# Altium integrated library LIB Extraction.IntLib: 9 symbols
Pins are listed as number, name and electrical type; pins without a type are passive.

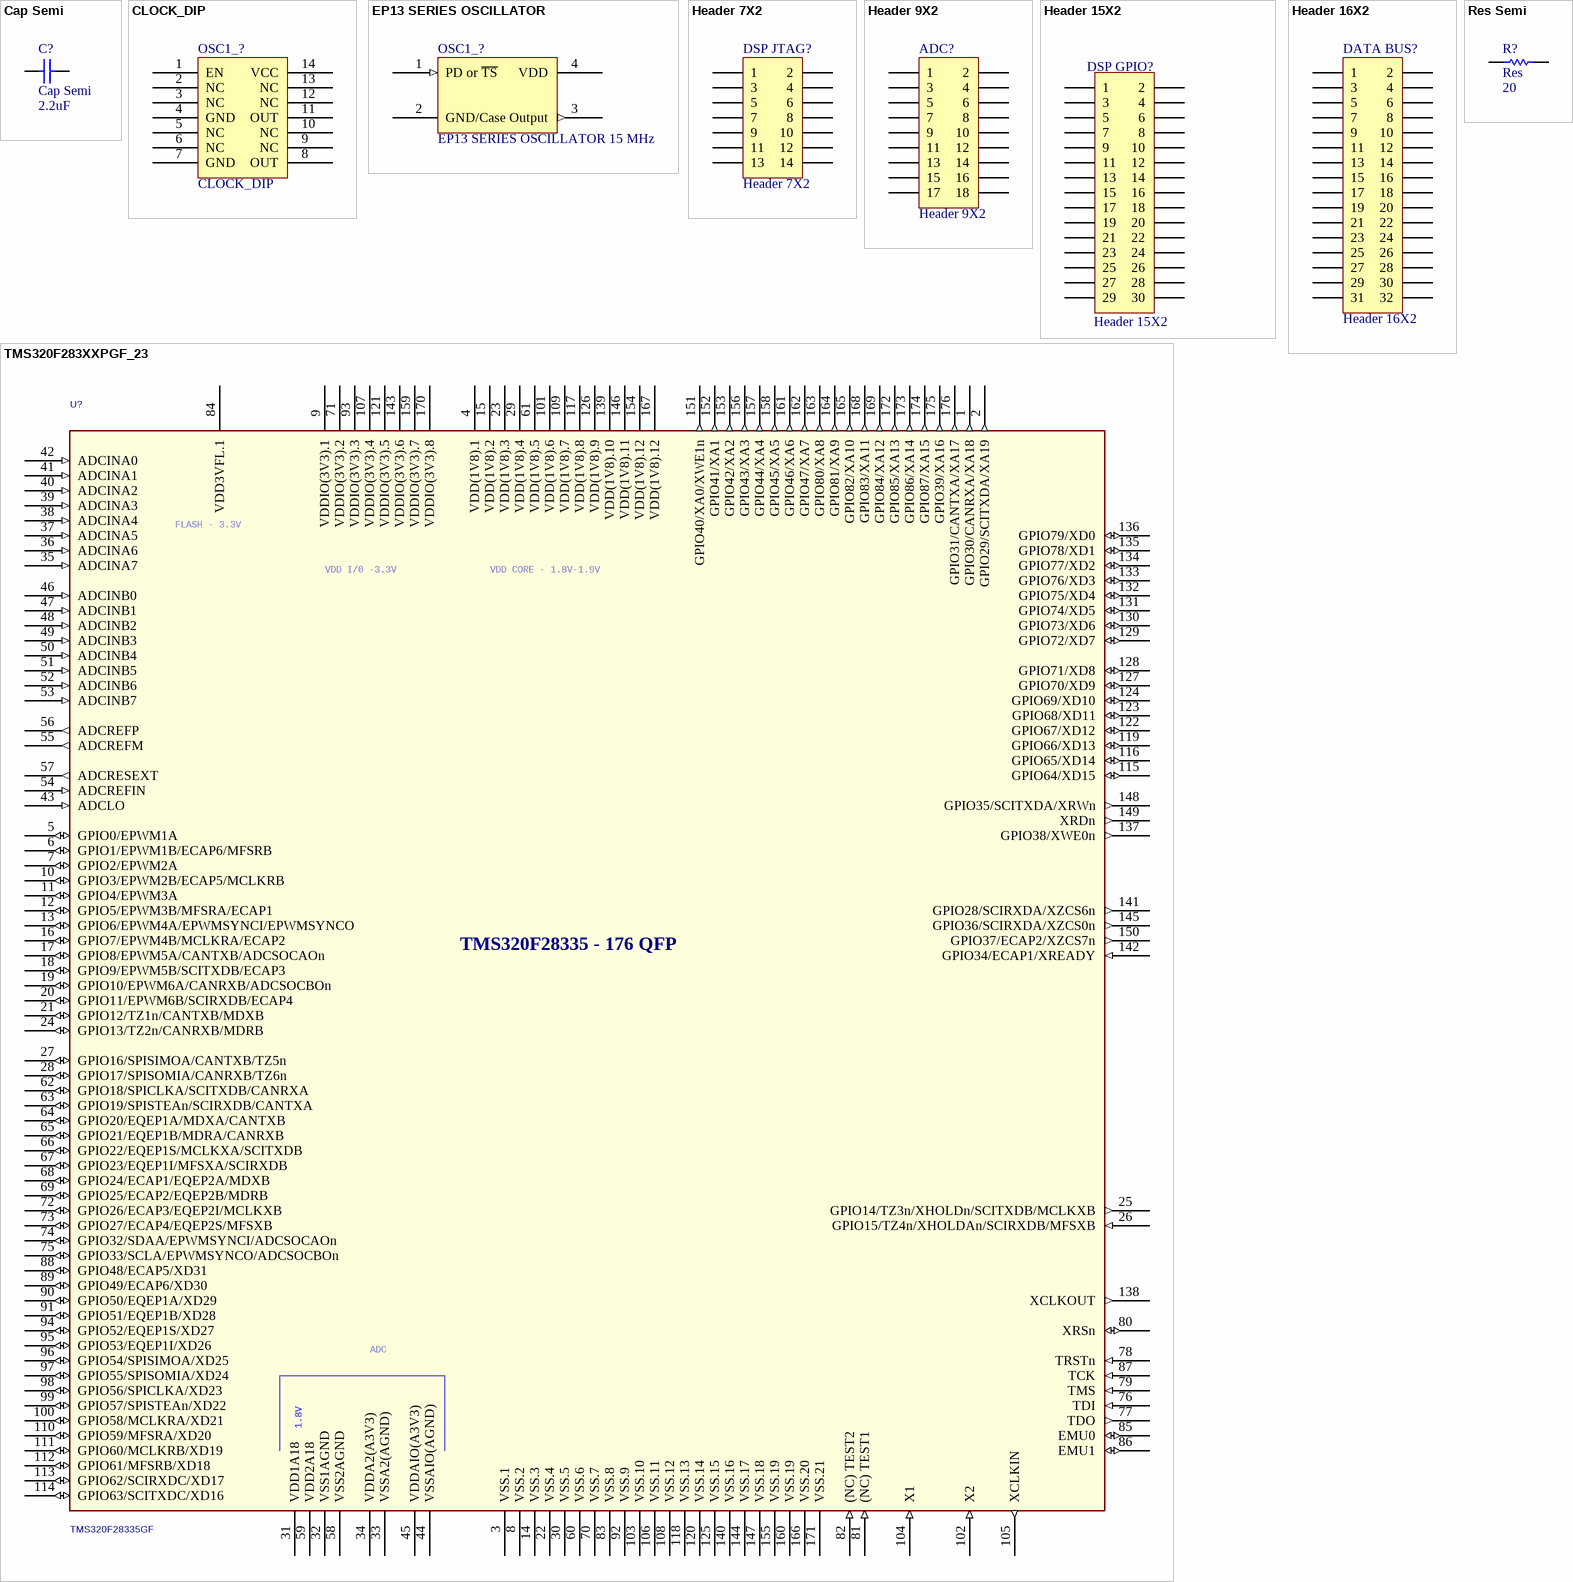
[diagram p0: symbols Cap Semi to TMS320F283XXPGF_23]

## Cap Semi
designator C?  value 2.2uF
Capacitor (Semiconductor SIM Model); Published: 8-Jun-2000; LatestRevisionDate: 17-Jul-2002; LatestRevisionNote: Re-released for DXP Platform.; PackageReference: C1206; Publisher: Altium Limited
footprint C1206 (Chip Capacitor; Body 3.2 x 1.6 mm (LxW typ))
footprint 0805
footprint 1310[0504] (Chip Capacitor; Body 1.2 x 1.0 mm (LxW typ))
footprint 1608[0603] (Chip Capacitor; Body 1.6 x 0.8 mm (LxW typ))
footprint C1210 (Chip Capacitor; Body 3.2 x 2.5 mm (LxW typ))
simulation model CAP (Semiconductor Capacitor)
signal-integrity model Cap Semi
pins: 1, 2

## CLOCK_DIP
designator OSC1_?
footprint DIP-14
pins: 1 EN, 2 NC, 3 NC, 4 GND, 5 NC, 6 NC, 7 GND, 8 OUT, 9 NC, 10 NC, 11 OUT, 12 NC, 13 NC, 14 VCC

## EP13 SERIES OSCILLATOR
designator OSC1_?, comment EP13 SERIES OSCILLATOR 15 MHz
15Mhz Programmable Clock; Digikey #: ECS-P53-B-ND
footprint XTAL_SMT
footprint XTAL_SMT
pins: 1 PD or ~{TS} (in), 2 GND/Case (power), 3 Output (out), 4 VDD (power)

## Header 7X2
designator DSP JTAG?
Header, 7-Pin, Dual row; LatestRevisionDate: 17-Jul-2002; LatestRevisionNote: Re-released for DXP Platform.; Publisher: Altium Limited
footprint HDR2X7 (Connector; Header; 7x2 Position)
signal-integrity model Connector
pins: 1, 2, 3, 4, 5, 6, 7, 8, 9, 10, 11, 12, 13, 14

## Header 9X2
designator ADC?
Header, 9-Pin, Dual row; LatestRevisionDate: 17-Jul-2002; LatestRevisionNote: Re-released for DXP Platform.; Publisher: Altium Limited
footprint HDR2X9 (Connector; Header; 9x2 Position)
signal-integrity model Connector
pins: 1, 2, 3, 4, 5, 6, 7, 8, 9, 10, 11, 12, 13, 14, 15, 16, 17, 18

## Header 15X2
designator DSP GPIO?
Header, 15-Pin, Dual row; LatestRevisionDate: 17-Jul-2002; LatestRevisionNote: Re-released for DXP Platform.; Publisher: Altium Limited
footprint HDR2X15 (Connector; Header; 15x2 Position)
signal-integrity model Connector
pins: 1, 2, 3, 4, 5, 6, 7, 8, 9, 10, 11, 12, 13, 14, 15, 16, 17, 18, 19, 20, 21, 22, 23, 24, 25, 26, 27, 28, 29, 30

## Header 16X2
designator DATA BUS?
Header, 16-Pin, Dual row; LatestRevisionDate: 17-Jul-2002; LatestRevisionNote: Re-released for DXP Platform.; Publisher: Altium Limited
footprint HDR2X16 (Connector; Header; 16x2 Position)
signal-integrity model Connector
pins: 1, 2, 3, 4, 5, 6, 7, 8, 9, 10, 11, 12, 13, 14, 15, 16, 17, 18, 19, 20, 21, 22, 23, 24, 25, 26, 27, 28, 29, 30, 31, 32

## Res Semi
designator R?, comment Res  value 20
Semiconductor Resistor; Published: 8-Jun-2000; LatestRevisionDate: 17-Jul-2002; LatestRevisionNote: Re-released for DXP Platform.; PackageReference: AXIAL-0.5; Publisher: Altium Limited
footprint AXIAL-0.5 (Semiconductor Resistor; 2 Leads)
footprint 0805
footprint 1608[0603] (Chip Resistor; Body 1.6 x 0.8 mm (LxW typ))
footprint 2012[0805] (Chip Resistor; Body 2.0 x 1.3 mm (LxW typ))
footprint 3216[1206] (Chip Resistor; Body 3.2 x 1.6 mm (LxW typ))
simulation model RES (Semiconductor Resistor)
signal-integrity model Res Semi
pins: 1, 2

## TMS320F283XXPGF_23
designator U?, comment TMS320F28335GF
Texas Instruments F28335; Digikey #: 296-23660-ND
footprint QFP176
footprint intp-ic1-1764-1505_176p
pins: 1 GPIO30/CANRXA/XA18 (out), 2 GPIO29/SCITXDA/XA19 (out), 3 VSS.1 (power), 4 VDD(1V8).1 (power), 5 GPIO0/EPWM1A (io), 6 GPIO1/EPWM1B/ECAP6/MFSRB (io), 7 GPIO2/EPWM2A (io), 8 VSS.2 (power), 9 VDDIO(3V3).1 (power), 10 GPIO3/EPWM2B/ECAP5/MCLKRB (io), 11 GPIO4/EPWM3A (io), 12 GPIO5/EPWM3B/MFSRA/ECAP1 (io), 13 GPIO6/EPWM4A/EPWMSYNCI/EPWMSYNCO (io), 14 VSS.3 (power), 15 VDD(1V8).2 (power), 16 GPIO7/EPWM4B/MCLKRA/ECAP2 (io), 17 GPIO8/EPWM5A/CANTXB/ADCSOCAOn (io), 18 GPIO9/EPWM5B/SCITXDB/ECAP3 (io), 19 GPIO10/EPWM6A/CANRXB/ADCSOCBOn (io), 20 GPIO11/EPWM6B/SCIRXDB/ECAP4 (io), 21 GPIO12/TZ1n/CANTXB/MDXB (io), 22 VSS.4 (power), 23 VDD(1V8).3 (power), 24 GPIO13/TZ2n/CANRXB/MDRB (io), 25 GPIO14/TZ3n/XHOLDn/SCITXDB/MCLKXB (out), 26 GPIO15/TZ4n/XHOLDAn/SCIRXDB/MFSXB (in), 27 GPIO16/SPISIMOA/CANTXB/TZ5n (io), 28 GPIO17/SPISOMIA/CANRXB/TZ6n (io), 29 VDD(1V8).4 (power), 30 VSS.5 (power), 31 VDD1A18 (power), 32 VSS1AGND (power), 33 VSSA2(AGND) (power), 34 VDDA2(A3V3) (power), 35 ADCINA7 (in), 36 ADCINA6 (in), 37 ADCINA5 (in), 38 ADCINA4 (in), 39 ADCINA3 (in), 40 ADCINA2 (in), 41 ADCINA1 (in), 42 ADCINA0 (in), 43 ADCLO (in), 44 VSSAIO(AGND) (power), 45 VDDAIO(A3V3) (power), 46 ADCINB0 (in), 47 ADCINB1 (in), 48 ADCINB2 (in), 49 ADCINB3 (in), 50 ADCINB4 (in), 51 ADCINB5 (in), 52 ADCINB6 (in), 53 ADCINB7 (in), 54 ADCREFIN (in), 55 ADCREFM (out), 56 ADCREFP (out), 57 ADCRESEXT (out), 58 VSS2AGND (power), 59 VDD2A18 (power), 60 VSS.6 (power), 61 VDD(1V8).5 (power), 62 GPIO18/SPICLKA/SCITXDB/CANRXA (io), 63 GPIO19/SPISTEAn/SCIRXDB/CANTXA (io), 64 GPIO20/EQEP1A/MDXA/CANTXB (io), 65 GPIO21/EQEP1B/MDRA/CANRXB (io), 66 GPIO22/EQEP1S/MCLKXA/SCITXDB (io), 67 GPIO23/EQEP1I/MFSXA/SCIRXDB (io), 68 GPIO24/ECAP1/EQEP2A/MDXB (io), 69 GPIO25/ECAP2/EQEP2B/MDRB (io), 70 VSS.7 (power), 71 VDDIO(3V3).2 (power), 72 GPIO26/ECAP3/EQEP2I/MCLKXB (io), 73 GPIO27/ECAP4/EQEP2S/MFSXB (io), 74 GPIO32/SDAA/EPWMSYNCI/ADCSOCAOn (io), 75 GPIO33/SCLA/EPWMSYNCO/ADCSOCBOn (io), 76 TDI (in), 77 TDO (out), 78 TRSTn (in), 79 TMS (in), 80 XRSn (io), 81 (NC) TEST1 (in), 82 (NC) TEST2 (in), 83 VSS.8 (power), 84 VDD3VFL.1 (power), 85 EMU0 (io), 86 EMU1 (io), 87 TCK (in), 88 GPIO48/ECAP5/XD31 (io), 89 GPIO49/ECAP6/XD30 (io), 90 GPIO50/EQEP1A/XD29 (io), 91 GPIO51/EQEP1B/XD28 (io), 92 VSS.9 (power), 93 VDDIO(3V3).3 (power), 94 GPIO52/EQEP1S/XD27 (io), 95 GPIO53/EQEP1I/XD26 (io), 96 GPIO54/SPISIMOA/XD25 (io), 97 GPIO55/SPISOMIA/XD24 (io), 98 GPIO56/SPICLKA/XD23 (io), 99 GPIO57/SPISTEAn/XD22 (io), 100 GPIO58/MCLKRA/XD21 (io), 101 VDD(1V8).6 (power), 102 X2 (in), 103 VSS.10 (power), 104 X1 (in), 105 XCLKIN (out), 106 VSS.11 (power), 107 VDDIO(3V3).4 (power), 108 VSS.12 (power), 109 VDD(1V8).7 (power), 110 GPIO59/MFSRA/XD20 (io), 111 GPIO60/MCLKRB/XD19 (io), 112 GPIO61/MFSRB/XD18 (io), 113 GPIO62/SCIRXDC/XD17 (io), 114 GPIO63/SCITXDC/XD16 (io), 115 GPIO64/XD15 (io), 116 GPIO65/XD14 (io), 117 VDD(1V8).8 (power), 118 VSS.13 (power), 119 GPIO66/XD13 (io), 120 VSS.14 (power), 121 VDDIO(3V3).5 (power), 122 GPIO67/XD12 (io), 123 GPIO68/XD11 (io), 124 GPIO69/XD10 (io), 125 VSS.15 (power), 126 VDD(1V8).9 (power), 127 GPIO70/XD9 (io), 128 GPIO71/XD8 (io), 129 GPIO72/XD7 (io), 130 GPIO73/XD6 (io), 131 GPIO74/XD5 (io), 132 GPIO75/XD4 (io), 133 GPIO76/XD3 (io), 134 GPIO77/XD2 (io), 135 GPIO78/XD1 (io), 136 GPIO79/XD0 (io), 137 GPIO38/XWE0n (out), 138 XCLKOUT (out), 139 VDD(1V8).10 (power), 140 VSS.16 (power), 141 GPIO28/SCIRXDA/XZCS6n (out), 142 GPIO34/ECAP1/XREADY (in), 143 VDDIO(3V3).6 (power), 144 VSS.17 (power), 145 GPIO36/SCIRXDA/XZCS0n (out), 146 VDD(1V8).11 (power), 147 VSS.18 (power), 148 GPIO35/SCITXDA/XRWn (out), 149 XRDn (out), 150 GPIO37/ECAP2/XZCS7n (out), 151 GPIO40/XA0/XWE1n (out), 152 GPIO41/XA1 (out), 153 GPIO42/XA2 (out), 154 VDD(1V8).12 (power), 155 VSS.19 (power), 156 GPIO43/XA3 (out), 157 GPIO44/XA4 (out), 158 GPIO45/XA5 (out), 159 VDDIO(3V3).7 (power), 160 VSS.19 (power), 161 GPIO46/XA6 (out), 162 GPIO47/XA7 (out), 163 GPIO80/XA8 (out), 164 GPIO81/XA9 (out), 165 GPIO82/XA10 (out), 166 VSS.20 (power), 167 VDD(1V8).12 (power), 168 GPIO83/XA11 (out), 169 GPIO84/XA12 (out), 170 VDDIO(3V3).8 (power), 171 VSS.21 (power), 172 GPIO85/XA13 (out), 173 GPIO86/XA14 (out), 174 GPIO87/XA15 (out), 175 GPIO39/XA16 (out), 176 GPIO31/CANTXA/XA17 (out)
text: FLASH - 3.3V; VDD I/0 -3.3V; VDD CORE - 1.8V-1.9V; TMS320F28335 - 176 QFP; ADC; 1.8V